# Altium footprint library passive.PcbLib: 29 footprints (part 2 of 2)
Each footprint in its own frame and in the unit in brackets; x right, y up, seen from the top. Pads: shape width x height; smd on the part's side, far side on the other; paste and mask are expansions set on the pad; w line width, h text height; cw(c..) or ccw(c..) is an arc to the next point about the centre after c.
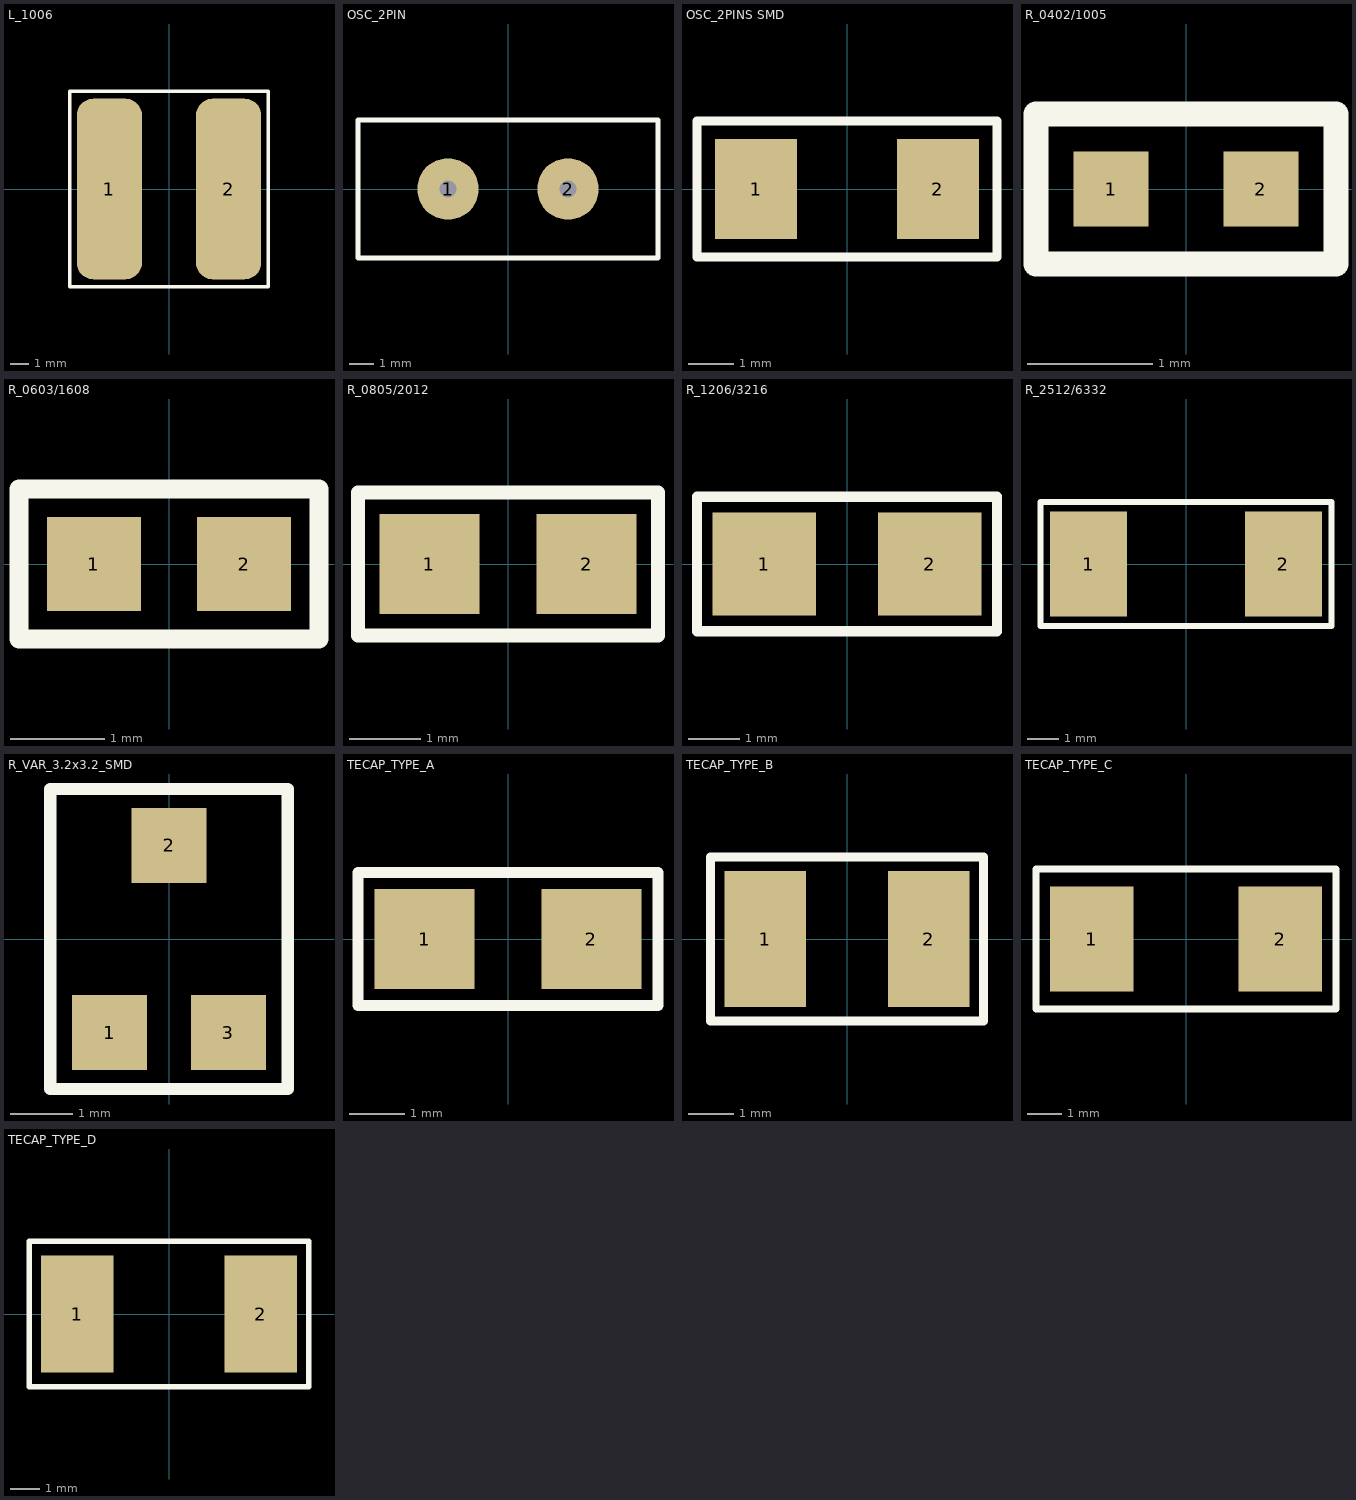
[diagram p1: the footprints below, top view; thin cyan lines are the x and y axes]

## L_1006 [mm] "Inductor, SMD, 1006"
height 5.8
pads (2):
  rrect50% 3.6x10 smd mask+0.1: 1(-3.3,0)
  rrect50% 3.6x10 smd: 2(3.3,0)
Top Overlay:
  lines w0.2: -5.5,-5.4 -5.5,5.4 5.5,5.4 5.5,-5.4 -5.5,-5.4
3D body "SMD_Inductor_CD104.step": height 4.08, standoff -0.01, extent -5,-4.5 5,4.5

## OSC_2PIN [mm] "Crystal oscillator, 2 pins"
height 2.5
pads (2):
  round 2.5 hole 0.7 mask+0.1: 1(-2.44,0) 2(2.44,0)
Top Overlay:
  lines w0.2: -6.1,-2.8 6.1,-2.8 6.1,2.8 -6.1,2.8 -6.1,-2.8
3D body "Quartz resonator _ ABL Series.stp": height 3.51, standoff -3, extent -5.75,-2.5 5.75,2.5

## OSC_2PINS SMD [mm] "Crystal oscillator, SMD, 2 pins"
height 2.5
pads (2):
  rect 1.8x2.2 smd mask+0.1: 1(-2,0) 2(2,0)
Top Overlay:
  lines w0.2: -3.3,-1.5 3.3,-1.5 3.3,1.5 -3.3,1.5 -3.3,-1.5
3D body "OSC3225.STEP": height 1, standoff 0, extent -1.6,-1.264 1.6,1.264

## R_0402/1005 [mm] "Resistor, SMD, 0402 (1005 metric)"
height 0.5
pads (2):
  rect 0.6x0.6 smd mask+0.1: 1(-0.6,0) 2(0.6,0)
Top Overlay:
  lines w0.2: -1.2,-0.6 1.2,-0.6 1.2,0.6 -1.2,0.6 -1.2,-0.6
3D body "R0402_detailed.step": height 0.32, standoff 0, extent -0.55,-0.25 0.55,0.25

## R_0603/1608 [mm] "Resistor, SMD, 0603 (1608 metric)"
height 0.5
pads (2):
  rect 1x1 smd mask+0.1: 1(-0.8,0) 2(0.8,0)
Top Overlay:
  lines w0.2: -1.6,-0.8 -1.6,0.8 1.6,0.8 1.6,-0.8 -1.6,-0.8
3D body "R0603_detailed.step": height 0.45, standoff 0, extent -0.8,-0.4 0.8,0.4

## R_0805/2012 [mm] "Resistor, SMD, 0805 (2012 metric)"
height 0.5
pads (2):
  rect 1.4x1.4 smd mask+0.1: 1(-1.1,0) 2(1.1,0)
Top Overlay:
  lines w0.2: -2.1,-1 -2.1,1 2.1,1 2.1,-1 -2.1,-1
3D body "R0805_detailed.step": height 0.6, standoff 0, extent -1,-0.63 1,0.62

## R_1206/3216 [mm] "Resistor, SMD, 1206 (3216 metric)"
pads (2):
  rect 2x2 smd mask+0.1: 1(-1.6,0) 2(1.6,0)
Top Overlay:
  lines w0.2: -2.9,-1.3 -2.9,1.3 2.9,1.3 2.9,-1.3 -2.9,-1.3
3D body "R1206_detailed.step": height 0.6, standoff 0, extent -1.6,-0.8 1.6,0.8

## R_2512/6332 [mm] "Resistor, SMD, 2512 (6332 metric)"
pads (2):
  rect 2.5x3.4 smd mask+0.1: 1(-3.15,0) 2(3.15,0)
Top Overlay:
  lines w0.2: -4.7,-2 -4.7,2 4.7,2 4.7,-2 -4.7,-2
3D body "SMD 2512.stp": height 0.32, standoff -0.32, extent -3.2,-1.587 3.15,1.588

## R_VAR_3.2x3.2_SMD [mm] "Resistor variable"
pads (3):
  rect 1.2x1.2 smd mask+0.1: 1(-0.95,-1.5) 2(0,1.5) 3(0.95,-1.5)
Top Overlay:
  lines w0.2: -1.9,-2.4 1.9,-2.4 1.9,2.4 -1.9,2.4 -1.9,-2.4
3D body "EVM-3E.STEP": height 1.62, standoff 0, extent -1.55,-1.9 1.55,1.9

## TECAP_TYPE_A [mm] "Tantalum capacitor, Type A, SMD"
pads (2):
  rect 1.8x1.8 smd: 1(-1.5,0) 2(1.5,0)
Top Overlay:
  lines w0.2: -2.7,-1.2 -2.7,1.2 2.7,1.2 2.7,-1.2 -2.7,-1.2
3D body "CAPM-TANTA-YL.stp": height 1.8, standoff 0, extent -1.7,-0.9 1.7,0.9

## TECAP_TYPE_B [mm] "Tantalum capacitor, Type B, SMD"
pads (2):
  rect 1.8x3 smd: 1(-1.8,0) 2(1.8,0)
Top Overlay:
  lines w0.2: -3,-1.8 -3,1.8 3,1.8 3,-1.8 -3,-1.8
3D body "CAPM-TANTB-YL.stp": height 2.1, standoff 0, extent -1.85,-1.5 1.85,1.5

## TECAP_TYPE_C [mm] "Tantalum capacitor, Type C, SMD"
pads (2):
  rect 2.4x3 smd: 1(-2.7,0) 2(2.7,0)
Top Overlay:
  lines w0.2: -4.3,-2 4.3,-2 4.3,2 -4.3,2 -4.3,-2
3D body "CAPM-TANTC-YL.stp": height 2.8, standoff 0, extent -3.1,-1.7 3.1,1.7

## TECAP_TYPE_D [mm] "Tantalum capacitor, Type D, SMD"
pads (2):
  rect 2.5x4 smd: 1(-3.15,0) 2(3.15,0)
Top Overlay:
  lines w0.2: -4.8,-2.5 4.8,-2.5 4.8,2.5 -4.8,2.5 -4.8,-2.5
3D body "CAPM-TANTD-YL.stp": height 3.1, standoff 0, extent -3.75,-2.25 3.75,2.25